# EAGLE library part TPS650531RGER (library TPS650531RGER)
5-CHANNEL POWER MGMT IC WITH TWO STEP DOWN CONVERTERS
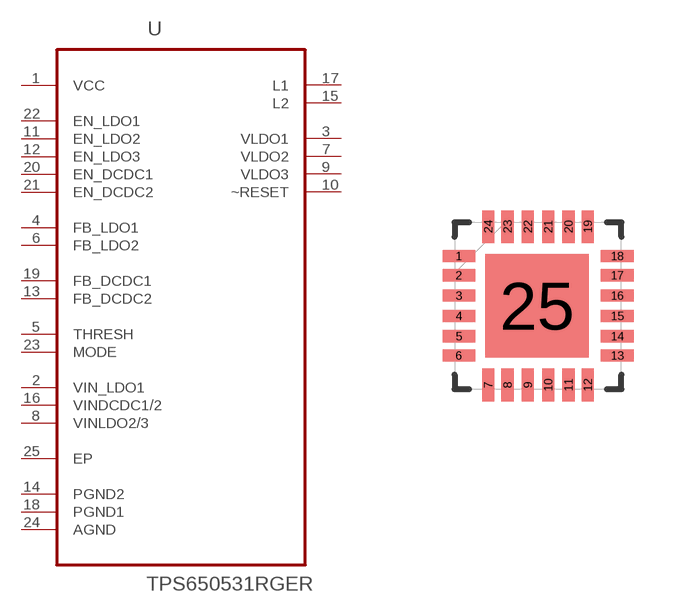
[diagram p0: symbol with the pads of QFN50P400X400X100-25N; footprint QFN50P400X400X100-25N]

Designator prefix U

## TPS650531RGER (Availability: Good; Description: 5-Channel Power Management IC _PMIC_ with two step down converters and 3 low-input voltage LDOs 24-VQFN -40 to 85; MF: Texas Instruments; MP: TPS650531RGER; Package: VQFN-24 Texas Instruments; Price: 2.97 USD)  [QFN50P400X400X100-25N]
1  VCC  pwr
2  VIN_LDO1  in
3  VLDO1  out
4  FB_LDO1  in
5  THRESH  in
6  FB_LDO2  in
7  VLDO2  out
8  VINLDO2/3  in
9  VLDO3  out
10  ~RESET  out
11  EN_LDO2  in
12  EN_LDO3  in
13  FB_DCDC2  in
14  PGND2  pas
15  L2  out
16  VINDCDC1/2  in
17  L1  out
18  PGND1  pas
19  FB_DCDC1  in
20  EN_DCDC1  in
21  EN_DCDC2  in
22  EN_LDO1  in
23  MODE  in
24  AGND  pas
25  EP  pas

## Footprint QFN50P400X400X100-25N (pad centres in mm)
smd 0.813 x 0.305: 1 -1.981,1.245; 2 -1.981,0.762; 3 -1.981,0.254; 4 -1.981,-0.254; 5 -1.981,-0.762; 6 -1.981,-1.245; 13 1.981,-1.245; 14 1.981,-0.762; 15 1.981,-0.254; 16 1.981,0.254; 17 1.981,0.762; 18 1.981,1.245
smd 0.305 x 0.813: 7 -1.245,-1.981; 8 -0.762,-1.981; 9 -0.254,-1.981; 10 0.254,-1.981; 11 0.762,-1.981; 12 1.245,-1.981; 19 1.245,1.981; 20 0.762,1.981; 21 0.254,1.981; 22 -0.254,1.981; 23 -0.762,1.981; 24 -1.245,1.981
smd 2.591 x 2.591: 25 -0.025,0